# Altium footprint library DF51K-2P-2DSA(800).PcbLib: 1 footprints
Each footprint in its own frame and in the unit in brackets; x right, y up, seen from the top. Pads: shape width x height; smd on the part's side, far side on the other; paste and mask are expansions set on the pad; w line width, h text height; cw(c..) or ccw(c..) is an arc to the next point about the centre after c.
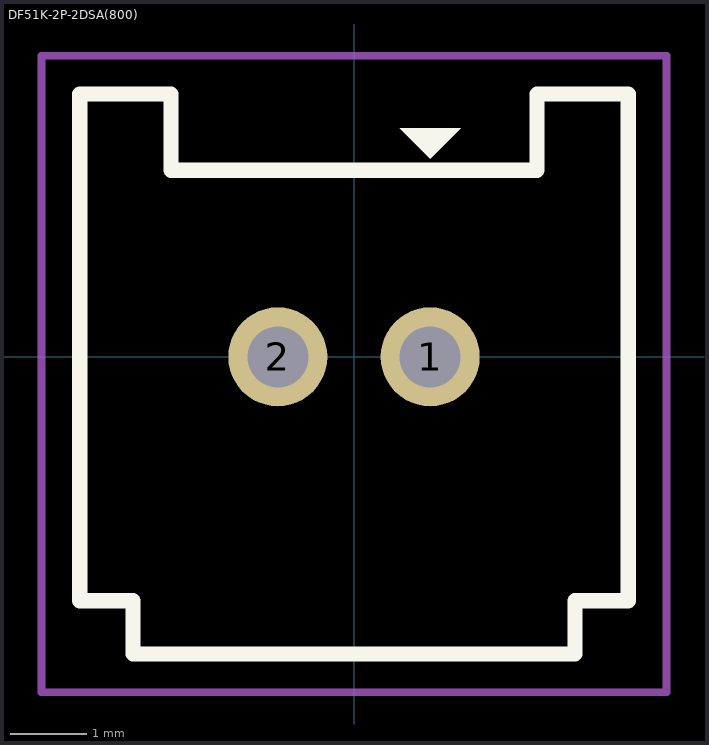
[diagram p0: the footprint, top view; thin cyan lines are the x and y axes]

## DF51K-2P-2DSA(800) [mm]
pads (2):
  round 1.3 hole 0.8: 1(1,0) 2(-1,0)
Top Overlay:
  region: 0.6,3 1.4,3 1,2.6
  lines w0.2: -3.6,-3.2 -3.6,3.45 -2.4,3.45 -2.4,2.45 2.4,2.45 2.4,3.45 3.6,3.45 3.6,-3.2 2.9,-3.2 2.9,-3.9 -2.9,-3.9 -2.9,-3.2 -3.6,-3.2
Top Courtyard:
  lines w0.1: -4.1,-4.4 3.6,-4.4 4.1,-4.4 4.1,3.95 -4.1,3.95 -4.1,-4.4
3D body "DF51K-2P-2DSA(800)_CL0480-0542-0-00_3DDrawing_STEP_DF51K-2P-2DSA_4800542000_3D_stp.stp": height 8.42, standoff -2.98, extent -3.6,-3.9 3.6,3.45